# Altium schematic symbol library Inductor.SchLib: 2 symbols
Pins are listed as number, name and electrical type; pins without a type are passive.

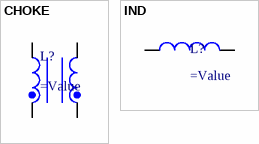
[diagram p0: symbols CHOKE to IND]

## CHOKE
designator L?
=Description
pins: 1, 2, 3, 4

## IND
designator L?
=Description
pins: 1, 2